# Altium integrated library Resistor.IntLib: 2 symbols
Pins are listed as number, name and electrical type; pins without a type are passive.

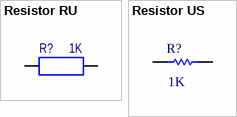
[diagram p0: symbols Resistor RU to Resistor US]

## Resistor RU
designator R?  value 1K  (hidden comment: *)
Резистор
footprint 0805_MD (Chip Resistor, 2-Leads, Body 2,00x1,25mm, IPC Medium Density)
footprint R 0.125W V P1.5
footprint R 0.125W V P2.54
footprint R 0.125W V P5.08
footprint R 0.125W H P7.62
footprint R 0.125W H P10.16
footprint R 0.125W H P12.7
signal-integrity model Resistor (Simple resistor)
simulation model Resistor
pins: 1, 2

## Resistor US
designator R?  value 1K  (hidden comment: Resistor US)
Resistor; Published: 8-Jun-2000; LatestRevisionDate: 17-Jul-2002; LatestRevisionNote: Re-released for DXP Platform.; PackageReference: AXIAL-0.3; Publisher: Altium Limited; PackageDescription: Axial Device, Thru-Hole; 2 Leads; 0.3 in Pin Spacing
simulation model RESISTOR (Resistor)
signal-integrity model Res
footprint 0805_MD (Chip Resistor, 2-Leads, Body 2,00x1,25mm, IPC Medium Density)
footprint R 0.125W H P7.62
footprint R 0.125W H P10.16
footprint R 0.125W H P12.7
footprint R 0.125W V P1.5
footprint R 0.125W V P2.54
footprint R 0.125W V P5.08
pins: 1, 2